# EAGLE library part DIP_SP6T (library laforge)
DIP SP6T switch COPAL SS-10-16
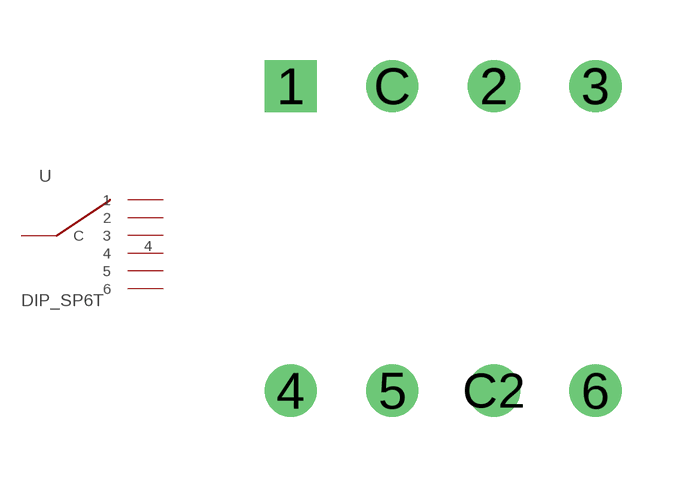
[diagram p24: symbol with the pads of DIP_SP6T; footprint DIP_SP6T]

Designator prefix -

## DIP_SP6T  [DIP_SP6T]
1  1
2  2
3  3
4  4
5  5
6  6
C  C

## Footprint DIP_SP6T (pad centres in mm)
drill 0.8 square: 1 -3.81,3.81
drill 0.8: 2 1.27,3.81; 3 3.81,3.81; 4 -3.81,-3.81; 5 -1.27,-3.81; 6 3.81,-3.81; C -1.27,3.81; C2 1.27,-3.81